# Altium footprint library 662302135922.PcbLib: 1 footprints
Each footprint in its own frame and in the unit in brackets; x right, y up, seen from the top. Pads: shape width x height; smd on the part's side, far side on the other; paste and mask are expansions set on the pad; w line width, h text height; cw(c..) or ccw(c..) is an arc to the next point about the centre after c.
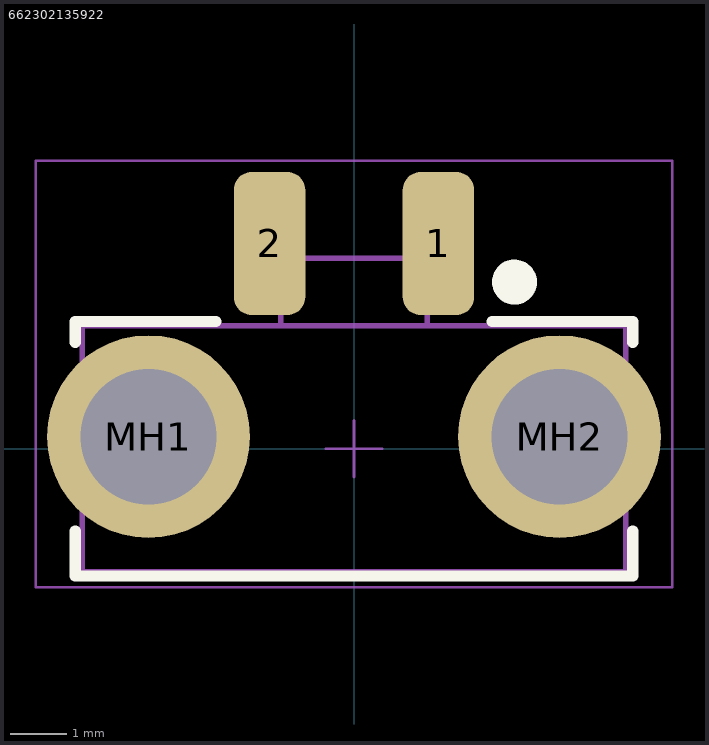
[diagram p0: the footprint, top view; thin cyan lines are the x and y axes]

## 662302135922 [mm]
pads (4):
  rrect50% 1.27x2.54 smd: 1(1.5,3.645) 2(-1.5,3.645)
  round 3.6 hole 2.41: MH1(-3.65,0.215) MH2(3.65,0.215)
Top Overlay:
  circle w0.4: c2.85,2.96 r0.2
  lines w0.2: -4.95,-1.46 -4.95,-2.26 4.95,-2.26 4.95,-1.46 ; -4.95,1.89 -4.95,2.26 -2.45,2.26 ; 2.45,2.26 4.95,2.26 4.95,1.89
Top Assembly:
  lines w0.1: -1.3,2.185 -1.3,3.385 1.3,3.385 1.3,2.185 ; -4.825,-2.185 -4.825,2.185 4.825,2.185 4.825,-2.185 -4.825,-2.185
Top Courtyard:
  lines w0.05: -0.5,0 0.5,0 ; 0,-0.5 0,0.5 ; -5.65,-2.46 -5.65,5.115 5.65,5.115 5.65,-2.46 -5.65,-2.46
3D body "662302135922.stp": height 10.14, standoff -1.9, extent -4.825,-2.498 4.825,4.445